# Altium footprint library PCBLibSynthe.PcbLib: 8 footprints
Each footprint in its own frame and in the unit in brackets; x right, y up, seen from the top. Pads: shape width x height; smd on the part's side, far side on the other; paste and mask are expansions set on the pad; w line width, h text height; cw(c..) or ccw(c..) is an arc to the next point about the centre after c.
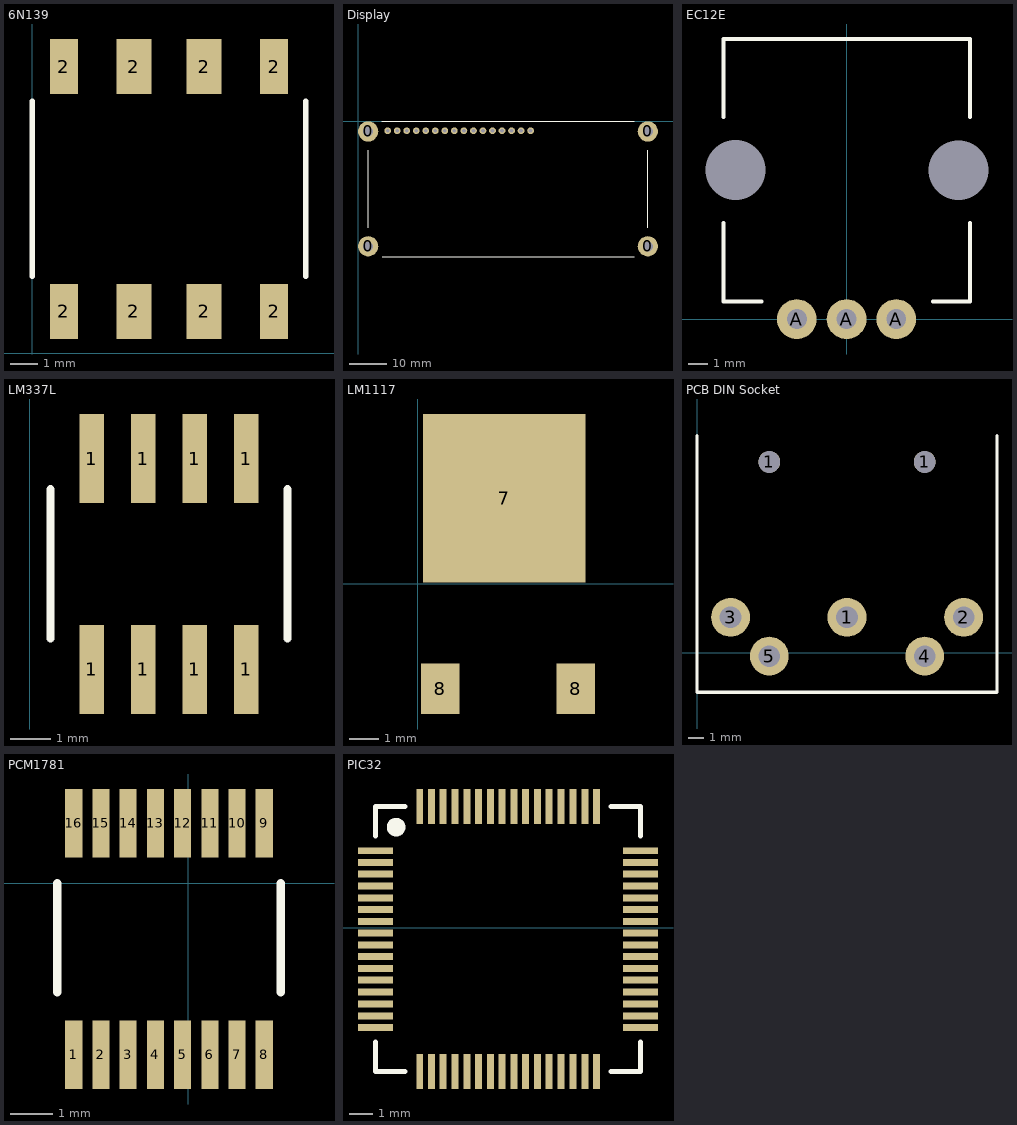
[diagram p0: the footprints below, top view; thin cyan lines are the x and y axes]

## 6N139 [mil] "Optocoupleur"
pads (8):
  rect 40x78.74 smd: 2(45,60) 2(45,409.13) 2(345,60) 2(345,409.13)
  rect 50x78.74 smd: 2(145,60) 2(145,409.13) 2(245,60) 2(245,409.13)
Top Overlay:
  lines w7.87: 0,110 0,360 ; 390,110 390,360

## Display [mm]
pads (20):
  round 5.4 hole 2.7: 0(2.674,-33.34) 0(2.674,-2.733) 0(77.223,-33.34) 0(77.223,-2.733)
  round 1.8 hole 1: 2(7.874,-2.54) 2(10.414,-2.54) 2(12.954,-2.54) 2(15.494,-2.54) 2(18.034,-2.54) 2(20.574,-2.54) 2(23.114,-2.54) 2(25.654,-2.54) 2(28.194,-2.54) 2(30.734,-2.54) 2(33.274,-2.54) 2(35.814,-2.54) 2(38.354,-2.54) 2(40.894,-2.54) 2(43.434,-2.54) 2(45.974,-2.54)
Top Overlay:
  lines w0.2: 2.667,-28.448 2.667,-7.747 ; 6.35,0 73.533,0 ; 6.47,-36.129 73.653,-36.129 ; 77.216,-28.448 77.216,-7.747

## EC12E [mm] "Encodeur"
pads (5):
  round 0 hole 3 mask+0: 5(-5.584,7.5) 5(5.628,7.493)
  round 2 hole 1 mask+0: A(-2.5,0) A(0,0) A(2.5,0)
Top Overlay:
  lines w0.2: -6.2,4.826 -6.2,0.889 -4.278,0.889 ; -6.2,10.16 -6.2,14.089 6.2,14.089 6.2,10.16 ; 4.358,0.889 6.2,0.889 6.2,4.826

## LM337L [mm]
pads (8):
  rect 0.6x2.2 smd mask+0.1: 1(1.524,2.413) 1(1.524,7.613) 1(2.794,2.413) 1(2.794,7.613) 1(4.064,2.413) 1(4.064,7.613) 1(5.334,2.413) 1(5.334,7.613)
Top Overlay:
  lines w0.2: 0.508,3.175 0.508,6.858 ; 6.35,3.175 6.35,6.858

## LM1117 [mm] "Linear regulator"
pads (3):
  rect 5.5x5.7 smd: 7(2.921,2.884)
  rect 1.3x1.7 smd: 8(0.762,-3.556) 8(5.332,-3.556)

## PCB DIN Socket [mm] "Midi"
pads (7):
  round 1.4 hole 1.4 mask+0: 1(4.652,12.286) 1(14.652,12.286)
  round 2.5 hole 1.4: 1(9.652,2.286) 2(17.159,2.286) 3(2.159,2.286) 4(14.652,-0.214) 5(4.652,-0.214)
Top Overlay:
  lines w0.2: 0,13.97 0,-2.54 19.304,-2.54 19.304,13.97

## PCM1781 [mm] "DAC"
pads (16):
  rect 0.4x1.6 smd mask+0.05: 1(-2.667,-4.003) 2(-2.032,-4.003) 3(-1.397,-4.003) 4(-0.762,-4.003) 5(-0.127,-4.003) 6(0.508,-4.003) 7(1.143,-4.003) 8(1.778,-4.003) 9(1.778,1.397) 10(1.143,1.397) 11(0.508,1.397) 12(-0.127,1.397) 13(-0.762,1.397) 14(-1.397,1.397) 15(-2.032,1.397) 16(-2.667,1.397)
Top Overlay:
  lines w0.2: -3.048,-2.54 -3.048,0 ; 2.159,-2.54 2.159,0

## PIC32 [mm] "PIC32MX575F512H"
pads (64):
  rect 1.5x0.3 smd paste+0 mask+0.05: 4(3.556,-4.294) 4(3.556,-3.794) 4(3.556,-3.278) 4(3.556,-2.778) 4(3.556,-2.262) 4(3.556,-1.762) 4(3.556,-1.254) 4(3.556,-0.754) 4(3.556,-0.238) 4(3.556,0.262) 4(3.556,0.778) 4(3.556,1.278) 4(3.556,1.794) 4(3.556,2.294) 4(3.556,2.802) 4(3.556,3.302) 4(14.956,-4.294) 4(14.956,-3.794) 4(14.956,-3.278) 4(14.956,-2.778) 4(14.956,-2.262) 4(14.956,-1.762) 4(14.956,-1.254) 4(14.956,-0.754) 4(14.956,-0.238) 4(14.956,0.262) 4(14.956,0.778) 4(14.956,1.278) 4(14.956,1.794) 4(14.956,2.294) 4(14.956,2.802) 4(14.956,3.302)
  rect 0.3x1.5 smd paste+0 mask+0.05: 4(5.461,-6.193) 4(5.461,5.207) 4(5.961,-6.193) 4(5.961,5.207) 4(6.469,-6.193) 4(6.469,5.207) 4(6.969,-6.193) 4(6.969,5.207) 4(7.485,-6.193) 4(7.485,5.207) 4(7.985,-6.193) 4(7.985,5.207) 4(8.501,-6.193) 4(8.501,5.207) 4(9.001,-6.193) 4(9.001,5.207) 4(9.517,-6.193) 4(9.517,5.207) 4(10.017,-6.193) 4(10.017,5.207) 4(10.525,-6.193) 4(10.525,5.207) 4(11.025,-6.193) 4(11.025,5.207) 4(11.541,-6.193) 4(11.541,5.207) 4(12.041,-6.193) 4(12.041,5.207) 4(12.557,-6.193) 4(12.557,5.207) 4(13.057,-6.193) 4(13.057,5.207)
Top Overlay:
  circle w0.4: c4.445,4.318 r0.2
  lines w0.2: 3.556,-4.923 3.556,-6.193 4.826,-6.193 ; 3.556,3.937 3.556,5.207 4.826,5.207 ; 13.686,-6.193 14.956,-6.193 14.956,-4.923 ; 13.686,5.207 14.956,5.207 14.956,3.937